# Altium schematic symbol library Transistors.SchLib: 6 symbols
Pins are listed as number, name and electrical type; pins without a type are passive.

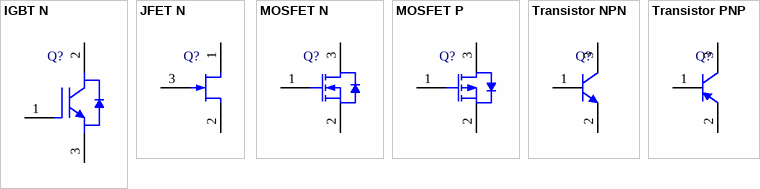
[diagram p0: symbols IGBT N to Transistor PNP]

## IGBT N
designator Q?
pins: 1 G, 2 C, 3 E

## JFET N
designator Q?
pins: 1 D, 2 S, 3 G

## MOSFET N
designator Q?
pins: 1 G, 2 S, 3 D

## MOSFET P
designator Q?
pins: 1 G, 2 S, 3 D

## Transistor NPN
designator Q?
pins: 1 B, 2 E, 3 C

## Transistor PNP
designator Q?
pins: 1 B, 2 E, 3 C